# Altium integrated library FPGA PB02 Port-Plugin.IntLib: 5 symbols
Pins are listed as number, name and electrical type; pins without a type are passive.

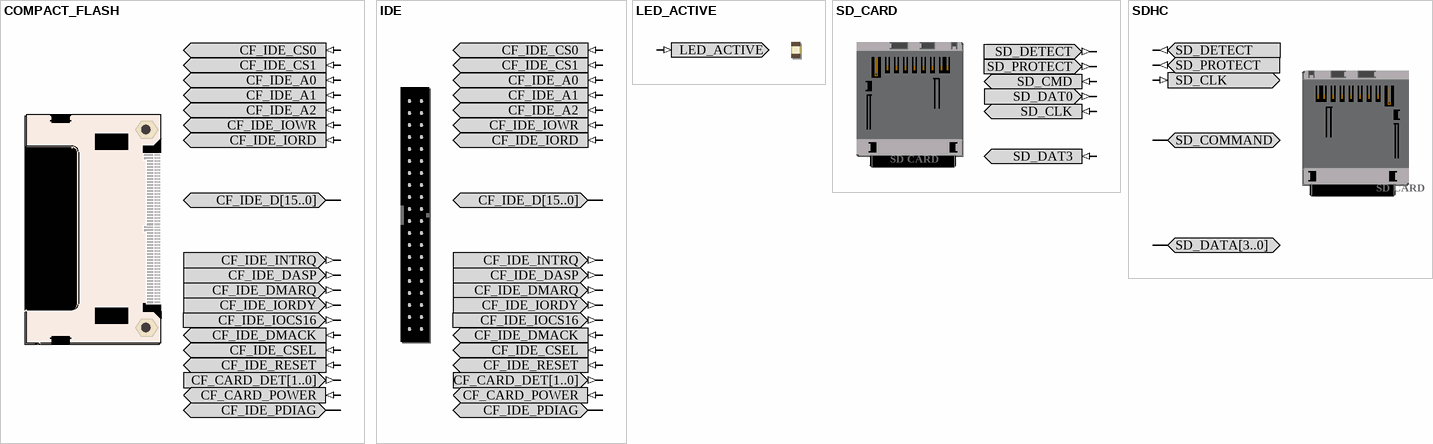
[diagram p0: symbols COMPACT_FLASH to SDHC]

## COMPACT_FLASH
designator ?
Connector, Compact Flash Card Ejector 22mm; PortComponent: True; Published: 22-Jan-2007; Publisher: Altium Limited; HelpURL: https://wiki.altium.com/display/ADOH/PB02+Resources+-+CF+Card+Reader
pins: CF_CARD_DET[1..0] (out), CF_CARD_POWER (in), CF_IDE_A0 (in), CF_IDE_A1 (in), CF_IDE_A2 (in), CF_IDE_CS0 (in), CF_IDE_CS1 (in), CF_IDE_CSEL (in), CF_IDE_D[15..0] (io), CF_IDE_DASP (out), CF_IDE_DMACK (in), CF_IDE_DMARQ (out), CF_IDE_INTRQ (out), CF_IDE_IOCS16 (out), CF_IDE_IORD (in), CF_IDE_IORDY (out), CF_IDE_IOWR (in), CF_IDE_PDIAG (io), CF_IDE_RESET (in)

## IDE
designator ?
IDE Header, 2 x 20 Pin Vertical 2.54mm Pitch; PortComponent: True; Published: 22-Jan-2007; Publisher: Altium Limited; HelpURL: https://wiki.altium.com/display/ADOH/PB02+Resources+-+ATA+and+IDE+Interfaces
pins: CF_CARD_DET[1..0] (out), CF_CARD_POWER (in), CF_IDE_A0 (in), CF_IDE_A1 (in), CF_IDE_A2 (in), CF_IDE_CS0 (in), CF_IDE_CS1 (in), CF_IDE_CSEL (in), CF_IDE_D[15..0] (io), CF_IDE_DASP (out), CF_IDE_DMACK (in), CF_IDE_DMARQ (out), CF_IDE_INTRQ (out), CF_IDE_IOCS16 (out), CF_IDE_IORD (in), CF_IDE_IORDY (out), CF_IDE_IOWR (in), CF_IDE_PDIAG (io), CF_IDE_RESET (in)

## LED_ACTIVE
designator ?
LED; PortComponent: True; Published: 14-May-2007; Publisher: Altium Limited; HelpURL: https://wiki.altium.com/display/ADOH/PB02+Resources+-+CF+Card+Reader
pins: LED_ACTIVE (in)

## SD_CARD
designator ?  (value not drawn)
Secure Digital Card Socket; PortComponent: True; Published: 22-Jan-2007; Publisher: Altium Limited; UseInDSF: True; HelpURL: https://wiki.altium.com/display/ADOH/PB02+Resources+-+SD+Card+Reader
pins: SD_CLK (in), SD_CMD (in), SD_DAT0 (out), SD_DAT3 (in), SD_DETECT (out), SD_PROTECT (out)
text: SD CARD

## SDHC
designator ?  (value not drawn)
High Capacity Secure Digital Socket; PortComponent: True; Published: 30-Nov-2009; Publisher: Altium Limited; UseInDSF: True; HelpURL: http://wiki.altium.com/display/ADOH/NanoBoard+3000+-+SD+Card+Reader+%28Host+FPGA%29
pins: SD_CLK (in), SD_COMMAND (io), SD_DATA[3..0] (io), SD_DETECT (out), SD_PROTECT (out)
text: SD CARD